# Altium integrated library 0ZRB0500FF1A.IntLib: 1 symbol
Pins are listed as number, name and electrical type; pins without a type are passive.

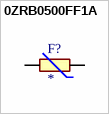
[diagram p0: symbol 0ZRB0500FF1A]

## 0ZRB0500FF1A
designator F?
MF: {'manufacturer': u'Bel Fuse Inc.'}; MP: 0ZRB0500FF1A; Package: None; Price: None; Value: *; Availability: Unavailable
footprint FUSRR1020W81L1400T300H2490
pins: 1, 2